# Altium schematic symbol library 模块.SchLib: 13 symbols
Pins are listed as number, name and electrical type; pins without a type are passive.

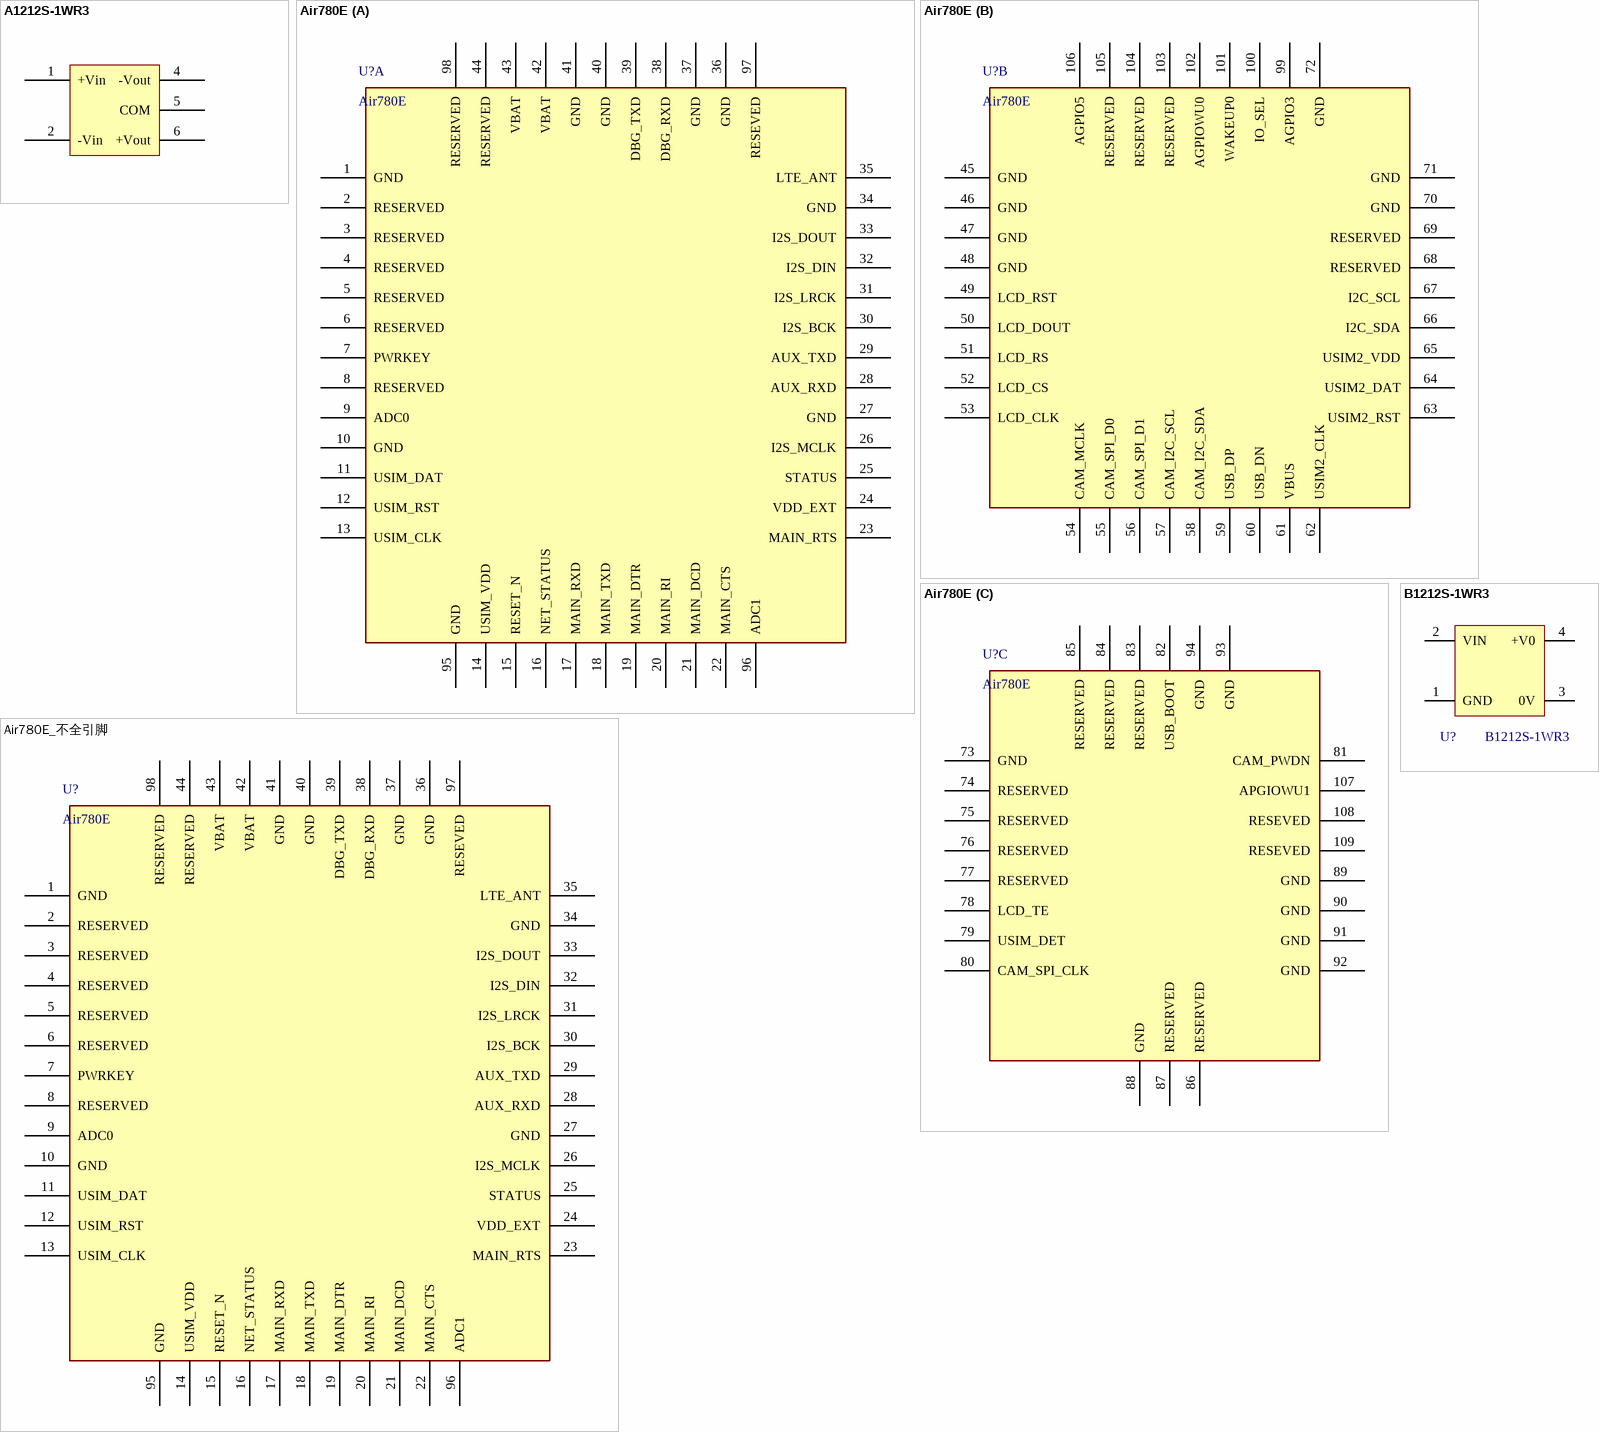
[diagram p0: symbols A1212S-1WR3 to B1212S-1WR3]

## A1212S-1WR3
designator U?
隔离电源12V; 厂家: K-CUT; 插件/贴片: 插件; 器件状态: 启用; 厂家型号: A1212S-1WR3; 金蝶料号: *; 工作温度: *; 值: *; ComponentLink1Description: New link; ComponentLink1URL: *
footprint A1212S-1W (1W隔离电源，输出正负电压)
pins: 1 +Vin, 2 -Vin, 4 -Vout, 5 COM, 6 +Vout

## Air780E
designator U?
4G模块; 厂家: 合宙; 金蝶料号: 010109010007; 工作温度: -40~85℃; 插件/贴片: 贴片; 器件状态: 启用; 厂家型号: Air780E; 值: Air780E
footprint AIR780E
part A pins: 1 GND, 2 RESERVED, 3 RESERVED, 4 RESERVED, 5 RESERVED, 6 RESERVED, 7 PWRKEY, 8 RESERVED, 9 ADC0, 10 GND, 11 USIM_DAT, 12 USIM_RST, 13 USIM_CLK, 14 USIM_VDD, 15 RESET_N, 16 NET_STATUS, 17 MAIN_RXD, 18 MAIN_TXD, 19 MAIN_DTR, 20 MAIN_RI, 21 MAIN_DCD, 22 MAIN_CTS, 23 MAIN_RTS, 24 VDD_EXT, 25 STATUS, 26 I2S_MCLK, 27 GND, 28 AUX_RXD, 29 AUX_TXD, 30 I2S_BCK, 31 I2S_LRCK, 32 I2S_DIN, 33 I2S_DOUT, 34 GND, 35 LTE_ANT, 36 GND, 37 GND, 38 DBG_RXD, 39 DBG_TXD, 40 GND, 41 GND, 42 VBAT, 43 VBAT, 44 RESERVED, 95 GND, 96 ADC1, 97 RESEVED, 98 RESERVED
part B pins: 45 GND, 46 GND, 47 GND, 48 GND, 49 LCD_RST, 50 LCD_DOUT, 51 LCD_RS, 52 LCD_CS, 53 LCD_CLK, 54 CAM_MCLK, 55 CAM_SPI_D0, 56 CAM_SPI_D1, 57 CAM_I2C_SCL, 58 CAM_I2C_SDA, 59 USB_DP, 60 USB_DN, 61 VBUS, 62 USIM2_CLK, 63 USIM2_RST, 64 USIM2_DAT, 65 USIM2_VDD, 66 I2C_SDA, 67 I2C_SCL, 68 RESERVED, 69 RESERVED, 70 GND, 71 GND, 72 GND, 99 AGPIO3, 100 IO_SEL, 101 WAKEUP0, 102 AGPIOWU0, 103 RESERVED, 104 RESERVED, 105 RESERVED, 106 AGPIO5
part C pins: 73 GND, 74 RESERVED, 75 RESERVED, 76 RESERVED, 77 RESERVED, 78 LCD_TE, 79 USIM_DET, 80 CAM_SPI_CLK, 81  CAM_PWDN, 82 USB_BOOT, 83 RESERVED, 84 RESERVED, 85 RESERVED, 86 RESERVED, 87 RESERVED, 88 GND, 89 GND, 90 GND, 91 GND, 92 GND, 93 GND, 94 GND, 107 APGIOWU1, 108 RESEVED, 109 RESEVED

## Air780E_不全引脚
designator U?, comment Air780E
4G模块; 厂家: 合宙; 金蝶料号: 010109010007; 工作温度: -40~85℃; 插件/贴片: 贴片; 器件状态: 启用; 厂家型号: Air780E; 值: Air780E
footprint AIR780E - 引脚 不全
pins: 1 GND, 2 RESERVED, 3 RESERVED, 4 RESERVED, 5 RESERVED, 6 RESERVED, 7 PWRKEY, 8 RESERVED, 9 ADC0, 10 GND, 11 USIM_DAT, 12 USIM_RST, 13 USIM_CLK, 14 USIM_VDD, 15 RESET_N, 16 NET_STATUS, 17 MAIN_RXD, 18 MAIN_TXD, 19 MAIN_DTR, 20 MAIN_RI, 21 MAIN_DCD, 22 MAIN_CTS, 23 MAIN_RTS, 24 VDD_EXT, 25 STATUS, 26 I2S_MCLK, 27 GND, 28 AUX_RXD, 29 AUX_TXD, 30 I2S_BCK, 31 I2S_LRCK, 32 I2S_DIN, 33 I2S_DOUT, 34 GND, 35 LTE_ANT, 36 GND, 37 GND, 38 DBG_RXD, 39 DBG_TXD, 40 GND, 41 GND, 42 VBAT, 43 VBAT, 44 RESERVED, 95 GND, 96 ADC1, 97 RESEVED, 98 RESERVED

## B1212S-1WR3
designator U?
12V隔离电源 84mA; 厂家: K-CUT; 金蝶料号: 010109060002; 工作温度: -40~85℃; 插件/贴片: 插件; 器件状态: 启用; 厂家型号: B1212S-1WR3; 值: B1212S-1WR3
footprint B1212S
pins: 1 GND, 2 VIN, 3 0V, 4 +V0

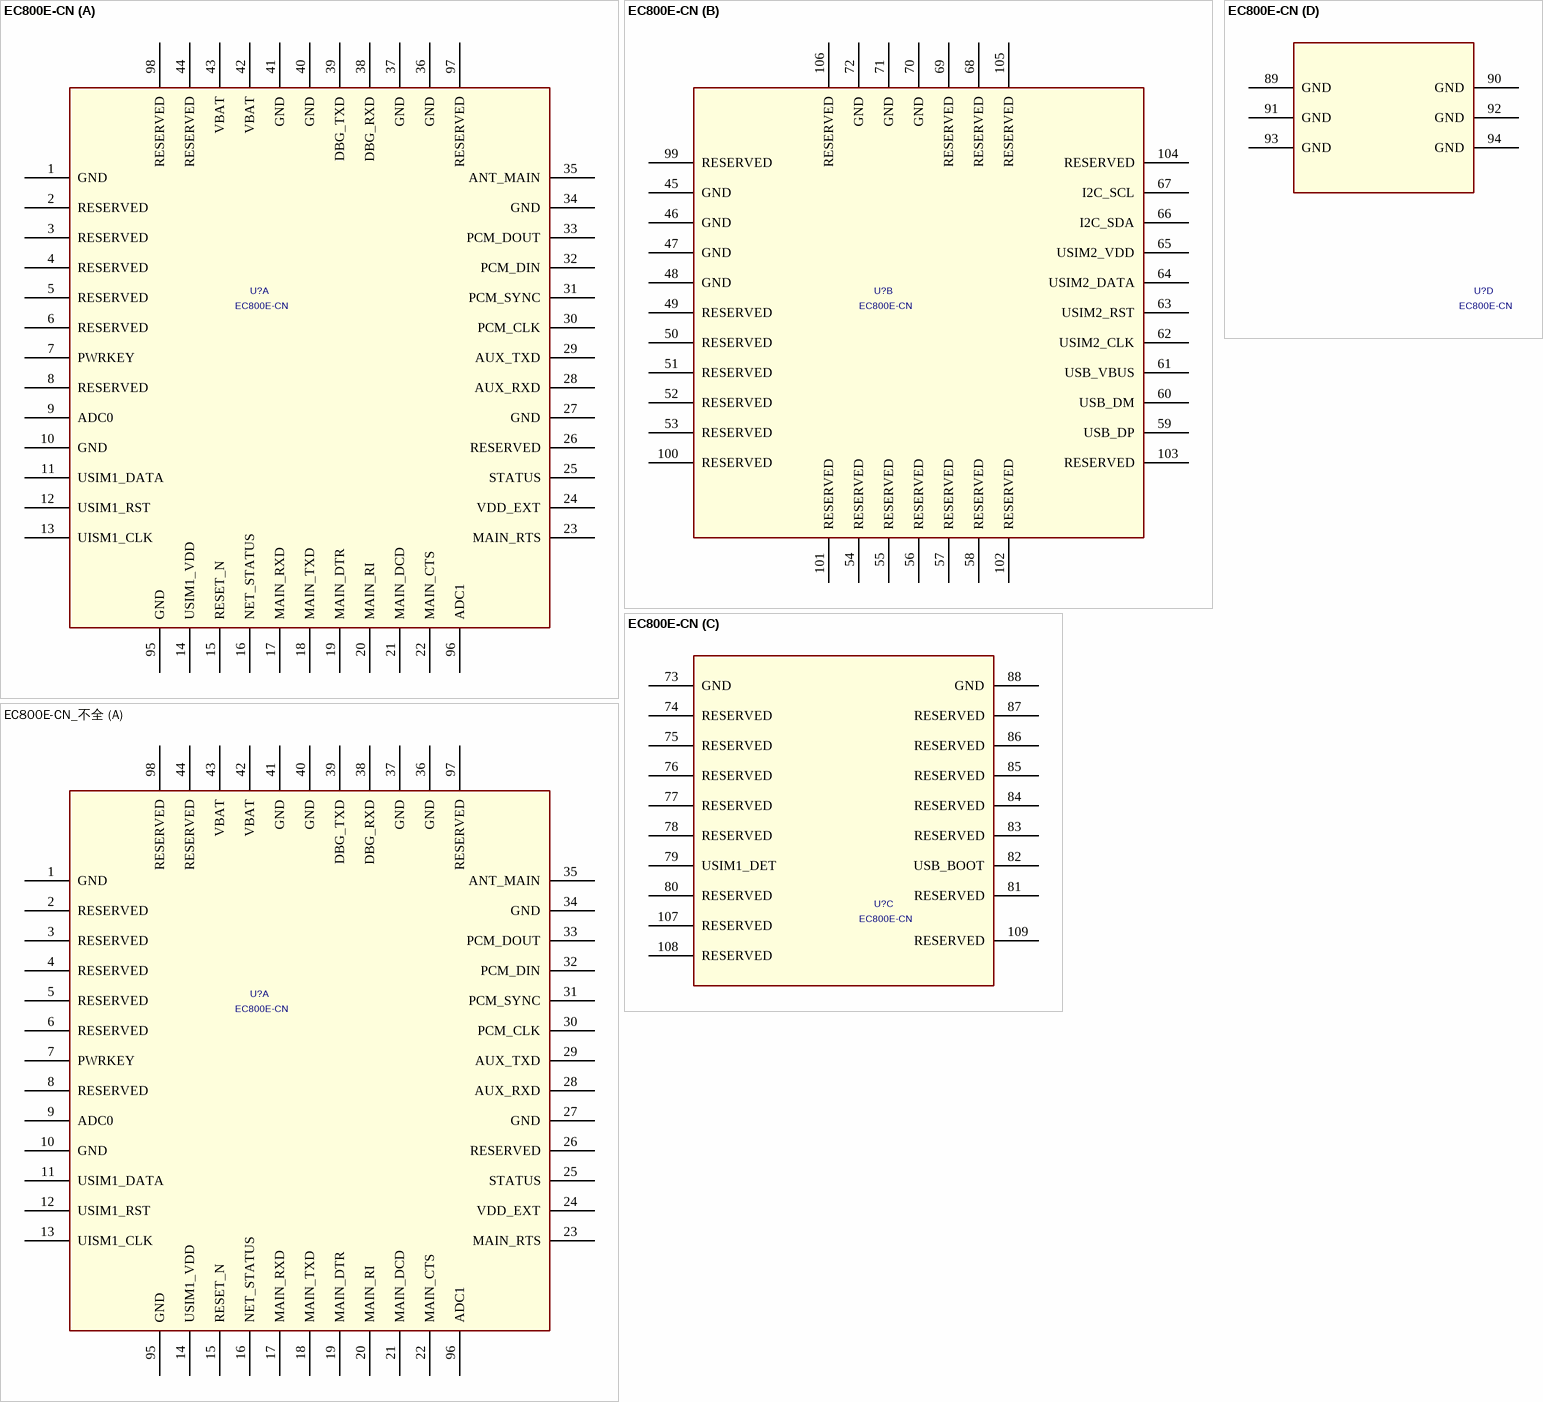
[diagram p1: symbols EC800E-CN to EC800E-CN_不全]

## EC800E-CN
designator U?
4G模块 EC800E-CN Module 109PIN 15.8x17.7mm H2.4mm RO; 厂家: 移远; 金蝶料号: 010109010008; 工作温度: -35°C~+75°C; 插件/贴片: 贴片; 器件状态: 在用; 厂家型号: EC800E-CN; 值: EC800E-CN
footprint EC800E-CN (EC800E-CN Moudle 109PIN 15.8X17.7mm H2.4mm RO)
part A pins: 1 GND, 2 RESERVED, 3 RESERVED, 4 RESERVED, 5 RESERVED, 6 RESERVED, 7 PWRKEY, 8 RESERVED, 9 ADC0, 10 GND, 11 USIM1_DATA, 12 USIM1_RST, 13 UISM1_CLK, 14 USIM1_VDD, 15 RESET_N, 16 NET_STATUS, 17 MAIN_RXD, 18 MAIN_TXD, 19 MAIN_DTR, 20 MAIN_RI, 21 MAIN_DCD, 22 MAIN_CTS, 23 MAIN_RTS, 24 VDD_EXT, 25 STATUS, 26 RESERVED, 27 GND, 28 AUX_RXD, 29 AUX_TXD, 30 PCM_CLK, 31 PCM_SYNC, 32 PCM_DIN, 33 PCM_DOUT, 34 GND, 35 ANT_MAIN, 36 GND, 37 GND, 38 DBG_RXD, 39 DBG_TXD, 40 GND, 41 GND, 42 VBAT, 43 VBAT, 44 RESERVED, 95 GND, 96 ADC1, 97 RESERVED, 98 RESERVED
part B pins: 45 GND, 46 GND, 47 GND, 48 GND, 49 RESERVED, 50 RESERVED, 51 RESERVED, 52 RESERVED, 53 RESERVED, 54 RESERVED, 55 RESERVED, 56 RESERVED, 57 RESERVED, 58 RESERVED, 59 USB_DP, 60 USB_DM, 61 USB_VBUS, 62 USIM2_CLK, 63 USIM2_RST, 64 USIM2_DATA, 65 USIM2_VDD, 66 I2C_SDA, 67 I2C_SCL, 68 RESERVED, 69 RESERVED, 70 GND, 71 GND, 72 GND, 99 RESERVED, 100 RESERVED, 101 RESERVED, 102 RESERVED, 103 RESERVED, 104 RESERVED, 105 RESERVED, 106 RESERVED
part C pins: 73 GND, 74 RESERVED, 75 RESERVED, 76 RESERVED, 77 RESERVED, 78 RESERVED, 79 USIM1_DET, 80 RESERVED, 81 RESERVED, 82 USB_BOOT, 83 RESERVED, 84 RESERVED, 85 RESERVED, 86 RESERVED, 87 RESERVED, 88 GND, 107 RESERVED, 108 RESERVED, 109 RESERVED
part D pins: 89 GND, 90 GND, 91 GND, 92 GND, 93 GND, 94 GND

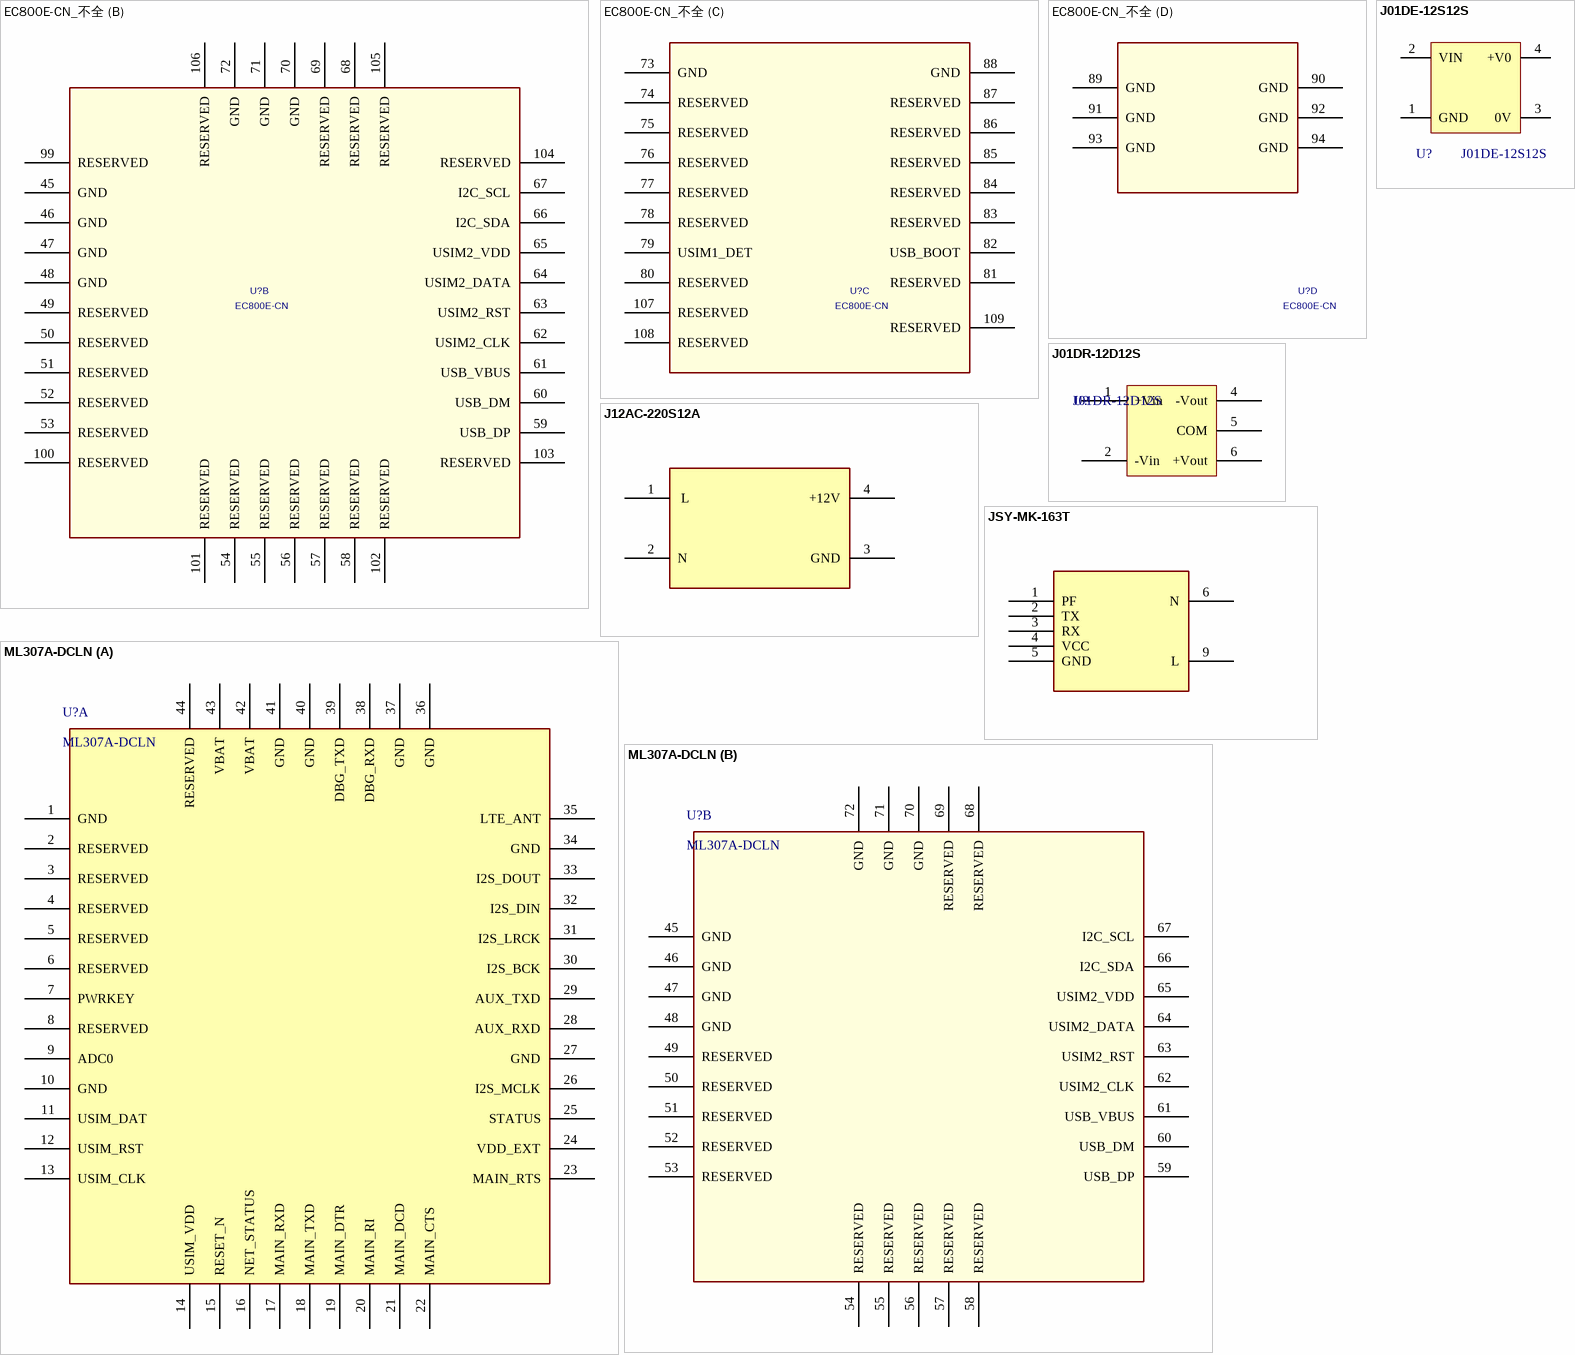
[diagram p2: symbols EC800E-CN_不全 to ML307A-DCLN]

## EC800E-CN_不全
designator U?, comment EC800E-CN
4G模块 EC800E-CN Module 109PIN 15.8x17.7mm H2.4mm RO; 厂家: 移远; 金蝶料号: 010109010008; 工作温度: -35°C~+75°C; 插件/贴片: 贴片; 器件状态: 在用; 厂家型号: EC800E-CN; 值: EC800E-CN
footprint EC800E-CN - 不全 (EC800E-CN Moudle 109PIN 15.8X17.7mm H2.4mm RO)
part A pins: 1 GND, 2 RESERVED, 3 RESERVED, 4 RESERVED, 5 RESERVED, 6 RESERVED, 7 PWRKEY, 8 RESERVED, 9 ADC0, 10 GND, 11 USIM1_DATA, 12 USIM1_RST, 13 UISM1_CLK, 14 USIM1_VDD, 15 RESET_N, 16 NET_STATUS, 17 MAIN_RXD, 18 MAIN_TXD, 19 MAIN_DTR, 20 MAIN_RI, 21 MAIN_DCD, 22 MAIN_CTS, 23 MAIN_RTS, 24 VDD_EXT, 25 STATUS, 26 RESERVED, 27 GND, 28 AUX_RXD, 29 AUX_TXD, 30 PCM_CLK, 31 PCM_SYNC, 32 PCM_DIN, 33 PCM_DOUT, 34 GND, 35 ANT_MAIN, 36 GND, 37 GND, 38 DBG_RXD, 39 DBG_TXD, 40 GND, 41 GND, 42 VBAT, 43 VBAT, 44 RESERVED, 95 GND, 96 ADC1, 97 RESERVED, 98 RESERVED
part B pins: 45 GND, 46 GND, 47 GND, 48 GND, 49 RESERVED, 50 RESERVED, 51 RESERVED, 52 RESERVED, 53 RESERVED, 54 RESERVED, 55 RESERVED, 56 RESERVED, 57 RESERVED, 58 RESERVED, 59 USB_DP, 60 USB_DM, 61 USB_VBUS, 62 USIM2_CLK, 63 USIM2_RST, 64 USIM2_DATA, 65 USIM2_VDD, 66 I2C_SDA, 67 I2C_SCL, 68 RESERVED, 69 RESERVED, 70 GND, 71 GND, 72 GND, 99 RESERVED, 100 RESERVED, 101 RESERVED, 102 RESERVED, 103 RESERVED, 104 RESERVED, 105 RESERVED, 106 RESERVED
part C pins: 73 GND, 74 RESERVED, 75 RESERVED, 76 RESERVED, 77 RESERVED, 78 RESERVED, 79 USIM1_DET, 80 RESERVED, 81 RESERVED, 82 USB_BOOT, 83 RESERVED, 84 RESERVED, 85 RESERVED, 86 RESERVED, 87 RESERVED, 88 GND, 107 RESERVED, 108 RESERVED, 109 RESERVED
part D pins: 89 GND, 90 GND, 91 GND, 92 GND, 93 GND, 94 GND

## J01DE-12S12S
designator U?
12V隔离电源 84mA; 厂家: 金联芯; 金蝶料号: 010109060004; 工作温度: -40~85℃; 插件/贴片: 插件; 器件状态: 启用; 厂家型号: J01DE-12S12S; 值: J01DE-12S12S
footprint B1212S
pins: 1 GND, 2 VIN, 3 0V, 4 +V0

## J01DR-12D12S
designator U?
隔离电源12V 双路输出; 厂家: 金联兴; 金蝶料号: 010109060003; 工作温度: -40~105℃; 插件/贴片: 插件; 厂家型号: J01DR-12D12S; 值: *; 器件状态: *; ComponentLink1Description: New link; ComponentLink1URL: *
footprint A1212S-1W (1W隔离电源，输出正负电压)
pins: 1 +Vin, 2 -Vin, 4 -Vout, 5 COM, 6 +Vout

## J12AC-220S12A
designator U?
电源模块 AC-DC 12.4V 968mA 工作温度 -25℃～+70℃; 金蝶料号: 010109050026; 插件/贴片: 插件; 器件状态: 启用; 厂家: *; 厂家型号: J12AC-220S12A; 工作温度: -25℃～+70℃; 值: J12AC-220S12A; ComponentLink1Description: New link; ComponentLink1URL: *
footprint J12AC-27*41MM
pins: 1  L, 2 N, 3 GND, 4 +12V

## JSY-MK-163T
designator U?
计量模块; 厂家: JSY; 金蝶料号: 010109120002; 插件/贴片: 插件; 厂家型号: JSY-MK-163T; 工作温度: *; 值: *; 器件状态: *; ComponentLink1Description: New link; ComponentLink1URL: *
footprint JSY-MK-163T
pins: 1 PF, 2 TX, 3 RX, 4 VCC, 5 GND, 6 N, 9 L

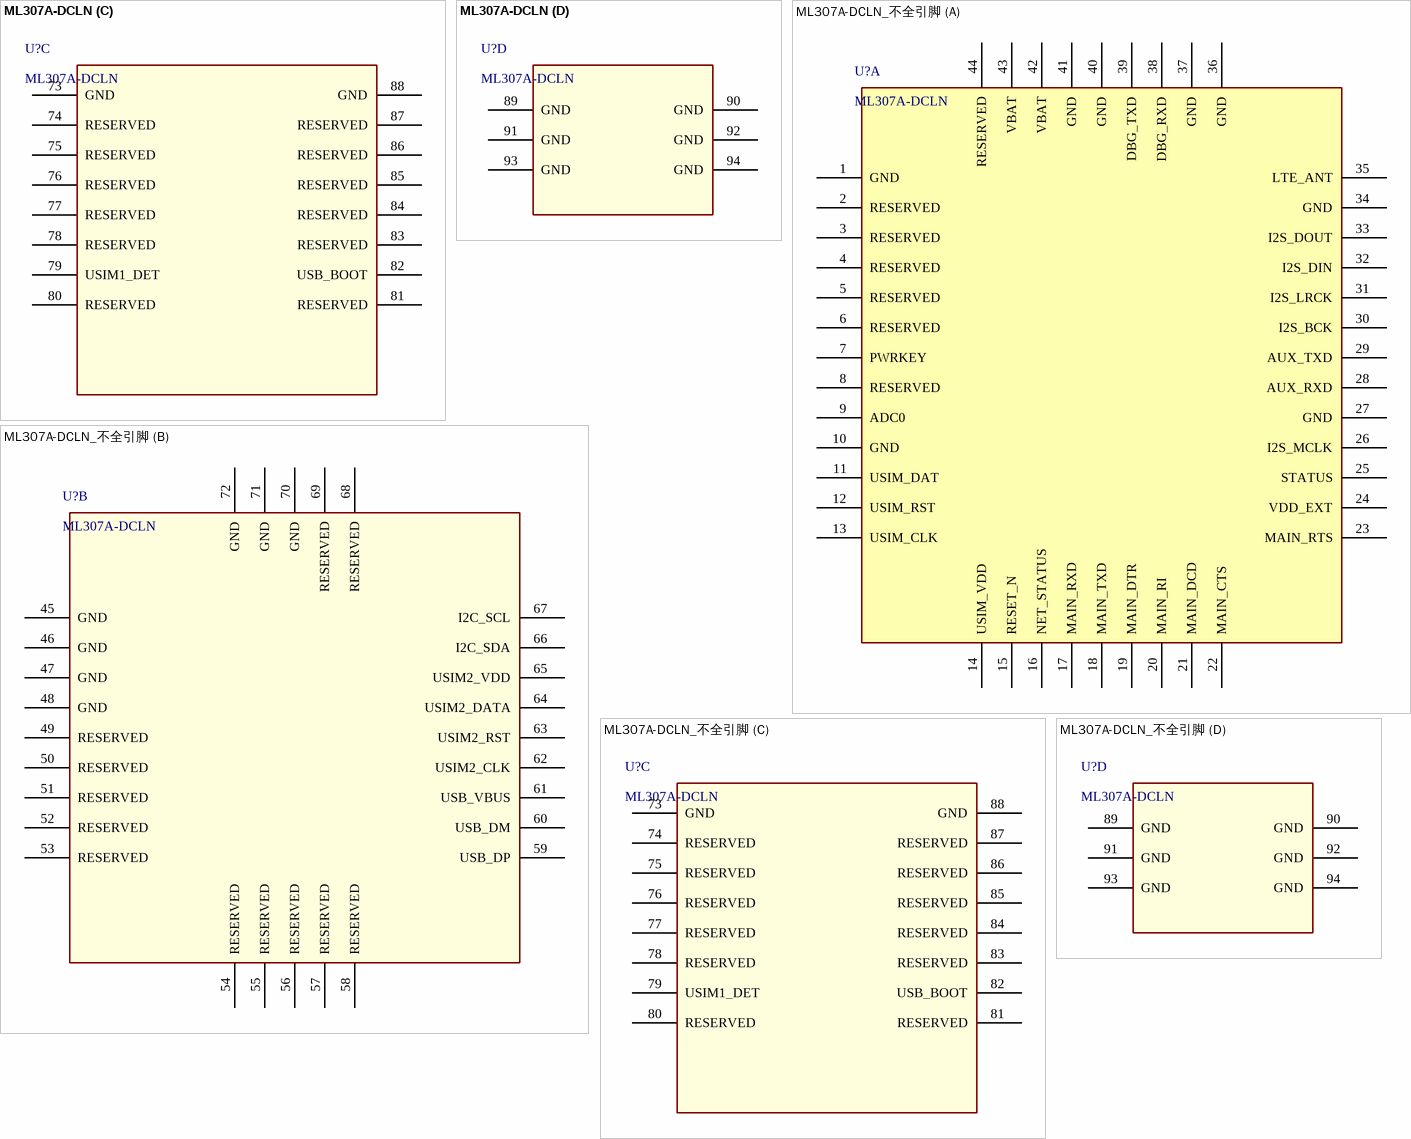
[diagram p3: symbols ML307A-DCLN to ML307A-DCLN_不全引脚]

## ML307A-DCLN
designator U?
4G模块  4+4; 厂家: 中国移动; 金蝶料号: 010109010014; 工作温度: -40~85℃; 插件/贴片: 贴片; 器件状态: 在用; 厂家型号: ML307A-DCLN; 值: ML307A-DCLN
footprint ML307A
part A pins: 1 GND, 2 RESERVED, 3 RESERVED, 4 RESERVED, 5 RESERVED, 6 RESERVED, 7 PWRKEY, 8 RESERVED, 9 ADC0, 10 GND, 11 USIM_DAT, 12 USIM_RST, 13 USIM_CLK, 14 USIM_VDD, 15 RESET_N, 16 NET_STATUS, 17 MAIN_RXD, 18 MAIN_TXD, 19 MAIN_DTR, 20 MAIN_RI, 21 MAIN_DCD, 22 MAIN_CTS, 23 MAIN_RTS, 24 VDD_EXT, 25 STATUS, 26 I2S_MCLK, 27 GND, 28 AUX_RXD, 29 AUX_TXD, 30 I2S_BCK, 31 I2S_LRCK, 32 I2S_DIN, 33 I2S_DOUT, 34 GND, 35 LTE_ANT, 36 GND, 37 GND, 38 DBG_RXD, 39 DBG_TXD, 40 GND, 41 GND, 42 VBAT, 43 VBAT, 44 RESERVED
part B pins: 45 GND, 46 GND, 47 GND, 48 GND, 49 RESERVED, 50 RESERVED, 51 RESERVED, 52 RESERVED, 53 RESERVED, 54 RESERVED, 55 RESERVED, 56 RESERVED, 57 RESERVED, 58 RESERVED, 59 USB_DP, 60 USB_DM, 61 USB_VBUS, 62 USIM2_CLK, 63 USIM2_RST, 64 USIM2_DATA, 65 USIM2_VDD, 66 I2C_SDA, 67 I2C_SCL, 68 RESERVED, 69 RESERVED, 70 GND, 71 GND, 72 GND
part C pins: 73 GND, 74 RESERVED, 75 RESERVED, 76 RESERVED, 77 RESERVED, 78 RESERVED, 79 USIM1_DET, 80 RESERVED, 81 RESERVED, 82 USB_BOOT, 83 RESERVED, 84 RESERVED, 85 RESERVED, 86 RESERVED, 87 RESERVED, 88 GND
part D pins: 89 GND, 90 GND, 91 GND, 92 GND, 93 GND, 94 GND

## ML307A-DCLN_不全引脚
designator U?, comment ML307A-DCLN
4G模块 4+4; 厂家: 中国移动; 金蝶料号: 010109010014; 工作温度: -40~85℃; 插件/贴片: 贴片; 器件状态: 在用; 厂家型号: ML307A-DCLN; 值: ML307A-DCLN
footprint ML307X_LGA109P -不全
part A pins: 1 GND, 2 RESERVED, 3 RESERVED, 4 RESERVED, 5 RESERVED, 6 RESERVED, 7 PWRKEY, 8 RESERVED, 9 ADC0, 10 GND, 11 USIM_DAT, 12 USIM_RST, 13 USIM_CLK, 14 USIM_VDD, 15 RESET_N, 16 NET_STATUS, 17 MAIN_RXD, 18 MAIN_TXD, 19 MAIN_DTR, 20 MAIN_RI, 21 MAIN_DCD, 22 MAIN_CTS, 23 MAIN_RTS, 24 VDD_EXT, 25 STATUS, 26 I2S_MCLK, 27 GND, 28 AUX_RXD, 29 AUX_TXD, 30 I2S_BCK, 31 I2S_LRCK, 32 I2S_DIN, 33 I2S_DOUT, 34 GND, 35 LTE_ANT, 36 GND, 37 GND, 38 DBG_RXD, 39 DBG_TXD, 40 GND, 41 GND, 42 VBAT, 43 VBAT, 44 RESERVED
part B pins: 45 GND, 46 GND, 47 GND, 48 GND, 49 RESERVED, 50 RESERVED, 51 RESERVED, 52 RESERVED, 53 RESERVED, 54 RESERVED, 55 RESERVED, 56 RESERVED, 57 RESERVED, 58 RESERVED, 59 USB_DP, 60 USB_DM, 61 USB_VBUS, 62 USIM2_CLK, 63 USIM2_RST, 64 USIM2_DATA, 65 USIM2_VDD, 66 I2C_SDA, 67 I2C_SCL, 68 RESERVED, 69 RESERVED, 70 GND, 71 GND, 72 GND
part C pins: 73 GND, 74 RESERVED, 75 RESERVED, 76 RESERVED, 77 RESERVED, 78 RESERVED, 79 USIM1_DET, 80 RESERVED, 81 RESERVED, 82 USB_BOOT, 83 RESERVED, 84 RESERVED, 85 RESERVED, 86 RESERVED, 87 RESERVED, 88 GND
part D pins: 89 GND, 90 GND, 91 GND, 92 GND, 93 GND, 94 GND

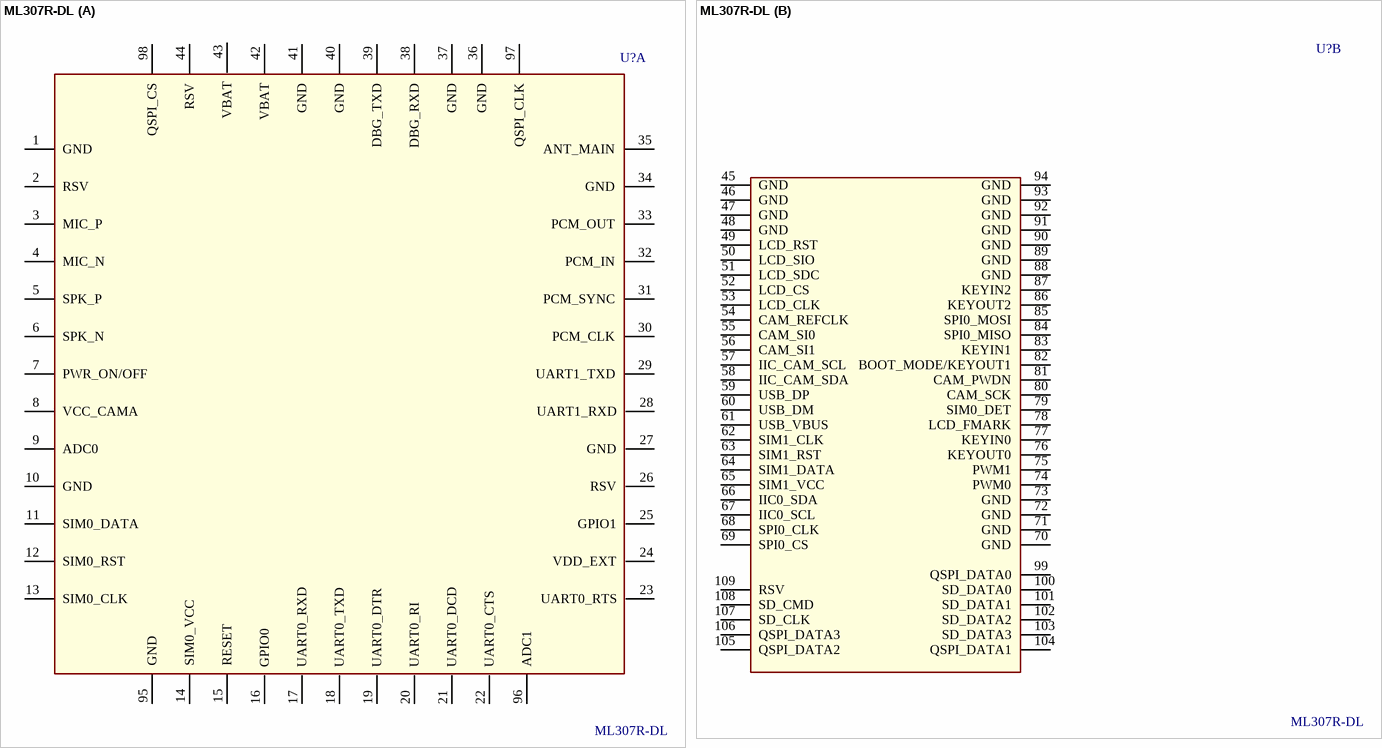
[diagram p4: symbol ML307R-DL]

## ML307R-DL
designator U?
4G模块 4+4; 厂家: 中移; 金蝶料号: 010109010013; 插件/贴片: 贴片; 厂家型号: ML307R-DL; 工作温度: *
footprint ML307X_LGA109P
part A pins: 1 GND, 2 RSV, 3 MIC_P, 4 MIC_N, 5 SPK_P, 6 SPK_N, 7 PWR_ON/OFF, 8 VCC_CAMA, 9 ADC0, 10 GND, 11 SIM0_DATA, 12 SIM0_RST, 13 SIM0_CLK, 14 SIM0_VCC, 15 RESET, 16 GPIO0, 17 UART0_RXD, 18 UART0_TXD, 19 UART0_DTR, 20 UART0_RI, 21 UART0_DCD, 22 UART0_CTS, 23 UART0_RTS, 24 VDD_EXT, 25 GPIO1, 26 RSV, 27 GND, 28 UART1_RXD, 29 UART1_TXD, 30 PCM_CLK, 31 PCM_SYNC, 32 PCM_IN, 33 PCM_OUT, 34 GND, 35 ANT_MAIN, 36 GND, 37 GND, 38 DBG_RXD, 39 DBG_TXD, 40 GND, 41 GND, 42 VBAT, 43 VBAT, 44 RSV, 95 GND, 96 ADC1, 97 QSPI_CLK, 98 QSPI_CS
part B pins: 45 GND, 46 GND, 47 GND, 48 GND, 49 LCD_RST, 50 LCD_SIO, 51 LCD_SDC, 52 LCD_CS, 53 LCD_CLK, 54 CAM_REFCLK, 55 CAM_SI0, 56 CAM_SI1, 57 IIC_CAM_SCL, 58 IIC_CAM_SDA, 59 USB_DP, 60 USB_DM, 61 USB_VBUS, 62 SIM1_CLK, 63 SIM1_RST, 64 SIM1_DATA, 65 SIM1_VCC, 66 IIC0_SDA, 67 IIC0_SCL, 68 SPI0_CLK, 69 SPI0_CS, 70 GND, 71 GND, 72 GND, 73 GND, 74 PWM0, 75 PWM1, 76 KEYOUT0, 77 KEYIN0, 78 LCD_FMARK, 79 SIM0_DET, 80 CAM_SCK, 81 CAM_PWDN, 82 BOOT_MODE/KEYOUT1, 83 KEYIN1, 84 SPI0_MISO, 85 SPI0_MOSI, 86 KEYOUT2, 87 KEYIN2, 88 GND, 89 GND, 90 GND, 91 GND, 92 GND, 93 GND, 94 GND, 99 QSPI_DATA0, 100 SD_DATA0, 101 SD_DATA1, 102 SD_DATA2, 103 SD_DATA3, 104 QSPI_DATA1, 105 QSPI_DATA2, 106 QSPI_DATA3, 107 SD_CLK, 108 SD_CMD, 109 RSV